# Altium footprint library 102709.PcbLib: 4 footprints
Each footprint in its own frame and in the unit in brackets; x right, y up, seen from the top. Pads: shape width x height; smd on the part's side, far side on the other; paste and mask are expansions set on the pad; w line width, h text height; cw(c..) or ccw(c..) is an arc to the next point about the centre after c.
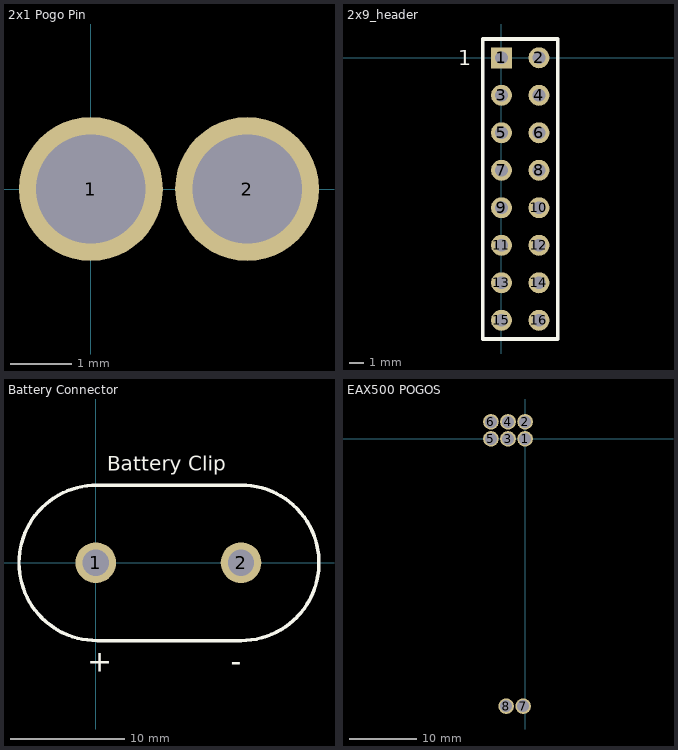
[diagram p0: the footprints below, top view; thin cyan lines are the x and y axes]

## 2x1 Pogo Pin [mil]
pads (2):
  round 92 hole 70: 1(0,0) 2(100,0)

## 2x9_header [mil]
pads (16):
  rect 56x56 hole 34: 1(0,0)
  round 56 hole 34: 2(100,0) 3(0,-100) 4(100,-100) 5(0,-200) 6(100,-200) 7(0,-300) 8(100,-300) 9(0,-400) 10(100,-400) 11(0,-500) 12(100,-500) 13(0,-600) 14(100,-600) 15(0,-700) 16(100,-700)
Top Overlay:
  lines w10: -50,-750 -50,50 150,50 150,-750 -50,-750
  text "1" at -115,-20 h40

## Battery Connector [mil]
pads (2):
  round 140 hole 90: 1(0,0) 2(500,0)
Top Overlay:
  lines w12: 5,-268 cw(c3.25,-0.5) 5,267 500,267 cw(c500.71,-0.5) 500,-268 5,-268
  text "Battery Clip" at 40,316 h50
  text "+" at -30,-375 h75
  text "-" at 465,-375 h75

## EAX500 POGOS [mil]
pads (8):
  round 92 hole 70: 1(0,0) 2(0,100) 3(-100,0) 4(-100,100) 5(-200,0) 6(-200,100) 7(-11,-1569) 8(-111,-1569)